# Altium schematic symbol library SS14.SchLib: 1 symbol
Pins are listed as number, name and electrical type; pins without a type are passive.

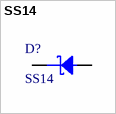
[diagram p0: symbol SS14]

## SS14
designator D?
DIODE SCHOTTKY 40V 1A DO214AC; Manufacturer: Taiwan Semiconductor; Manufacturer Lifecycle Status: ACTIVE; Element Configuration: Single; Forward Voltage: 500mV; Max Forward Surge Current (Ifsm): 40A; Max Junction Temperature (Tj): 125°C; Max Reverse Leakage Current: 200µA; Max Surge Current: 30A; Number of Elements: 1; Polarity: Standard; Power Dissipation: 400mW; Reverse Recovery Time: 25ns; Supplier: DigiKey; Supplier Part Number: 1801-SS14CT-ND; Manufacturer Part Number: SS14; RoHS: Compliant; Category: Schottky Diodes; Stock: 63885; Pricing: 1=0.39, 10=0.236, 50=0.1698, 100=0.148, 500=0.1096 (USD); Case/Package: SMA; China RoHS: Non-Compliant; Contact Plating: Tin; Country of Origin: Mainland China, Taiwan; Current Rating: 1A; Export Control Classification Number (ECCN) Code: EAR99; Forward Current: 1A; Harmonized Tariff Schedule (HTS) Code: 8541.10.00.80; Introduction Date: 1998-01-20; Lead Free: Lead Free; Lifecycle Status: Production; Max Operating Temperature: 125°C; Max Output current: 1A; Max Repetitive Reverse Voltage (Vrrm): 40V; Min Breakdown Voltage: 40V; Min Operating Temperature: -65°C; Mounting Technology: Surface Mount; Pins: 2; Number of Terminals: 2; Output Current: 1A; Packaging: Cut Tape; Peak Non-Repetitive Surge Current: 30A; Peak Reverse Current: 200µA; REACH SVHC: Affected; Reverse Standoff Voltage: 40V; Schedule B: 8541100080, 8541100080|8541100080|8541100080|8541100080|8541100080; Voltage Rating (DC): 40V; ComponentLink1URL: https://datasheet.octopart.com:443/SS14-Taiwan-Semiconductor-datasheet-179284502.pdf?src-supplier=IHS; ComponentLink1Description: https://datasheet.octopart.com:443/SS14-Taiwan-Semiconductor-datasheet-179284502.pdf?src-supplier=IHS; ComponentLink2URL: https://datasheet.octopart.com:443/SS14-Taiwan-Semiconductor-datasheet-181551144.pdf?src-supplier=IHS; ComponentLink2Description: https://datasheet.octopart.com:443/SS14-Taiwan-Semiconductor-datasheet-181551144.pdf?src-supplier=IHS; ComponentLink3URL: https://datasheet.octopart.com:443/SS14-Taiwan-Semiconductor-datasheet-180789182.pdf?src-supplier=IHS; ComponentLink3Description: https://datasheet.octopart.com:443/SS14-Taiwan-Semiconductor-datasheet-180789182.pdf?src-supplier=IHS; ComponentLink4URL: https://datasheet.octopart.com:443/SS14-Taiwan-Semiconductor-datasheet-182397600.pdf?src-supplier=IHS; ComponentLink4Description: https://datasheet.octopart.com:443/SS14-Taiwan-Semiconductor-datasheet-182397600.pdf?src-supplier=IHS; ComponentLink5URL: https://datasheet.octopart.com:443/SS14-Taiwan-Semiconductor-datasheet-68472387.pdf?src-supplier=Taiwan+Semiconductor; ComponentLink5Description: https://datasheet.octopart.com:443/SS14-Taiwan-Semiconductor-datasheet-68472387.pdf?src-supplier=Taiwan+Semiconductor; ComponentLink6URL: https://datasheet.octopart.com:443/SS14-Taiwan-Semiconductor-datasheet-34355587.pdf?src-supplier=Taiwan+Semiconductor; ComponentLink6Description: https://datasheet.octopart.com:443/SS14-Taiwan-Semiconductor-datasheet-34355587.pdf?src-supplier=Taiwan+Semiconductor; ComponentLink7URL: https://datasheet.octopart.com:443/SS14-Taiwan-Semiconductor-datasheet-152739498.pdf?src-supplier=Farnell; ComponentLink7Description: https://datasheet.octopart.com:443/SS14-Taiwan-Semiconductor-datasheet-152739498.pdf?src-supplier=Farnell; ComponentLink8URL: https://datasheet.octopart.com:443/SS14-Taiwan-Semiconductor-datasheet-13727340.pdf?src-supplier=Newark; ComponentLink8Description: https://datasheet.octopart.com:443/SS14-Taiwan-Semiconductor-datasheet-13727340.pdf?src-supplier=Newark; ComponentLink9URL: https://datasheet.octopart.com:443/SS14-Taiwan-Semiconductor-datasheet-11549383.pdf?src-supplier=JRH+Electronics; ComponentLink9Description: https://datasheet.octopart.com:443/SS14-Taiwan-Semiconductor-datasheet-11549383.pdf?src-supplier=JRH+Electronics; ComponentLink10URL: https://datasheet.octopart.com:443/SS14-Taiwan-Semiconductor-datasheet-8823.pdf?src-supplier=Mouser; ComponentLink10Description: https://datasheet.octopart.com:443/SS14-Taiwan-Semiconductor-datasheet-8823.pdf?src-supplier=Mouser
footprint DIOM4325X250N
footprint DIOM4325X250N
pins: A, C